# Altium schematic symbol library BQ24617RGET.SchLib: 1 symbol
Pins are listed as number, name and electrical type; pins without a type are passive.

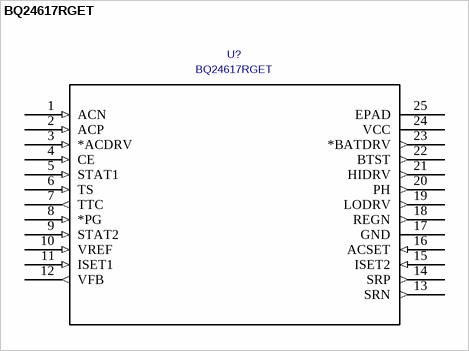
[diagram p0: symbol BQ24617RGET]

## BQ24617RGET
designator U?
Manufacturer: Texas Instruments; C: Copyright (C) 2015 Accelerated Designs. All rights reserved; Built_By: EMA_UL_Team; Value: BQ24617RGET; Vendor: Vendor; Manufacturer_Part_Number: BQ24617RGET
footprint RGE24_2P45X2P45
pins: 1 ACN (in), 2 ACP (in), 3 *ACDRV (in), 4 CE (in), 5 STAT1 (in), 6 TS (in), 7 TTC (out), 8 *PG (in), 9 STAT2 (in), 10 VREF (in), 11 ISET1 (in), 12 VFB (out), 13 SRN (out), 14 SRP (out), 15 ISET2 (in), 16 ACSET (in), 17 GND (power), 18 REGN (out), 19 LODRV (out), 20 PH (out), 21 HIDRV (out), 22 BTST (out), 23 *BATDRV (out), 24 VCC (power), 25 EPAD (power)